# Altium footprint library My_Library.PcbLib: 118 footprints (part 7 of 8)
Each footprint in its own frame and in the unit in brackets; x right, y up, seen from the top. Pads: shape width x height; smd on the part's side, far side on the other; paste and mask are expansions set on the pad; w line width, h text height; cw(c..) or ccw(c..) is an arc to the next point about the centre after c.
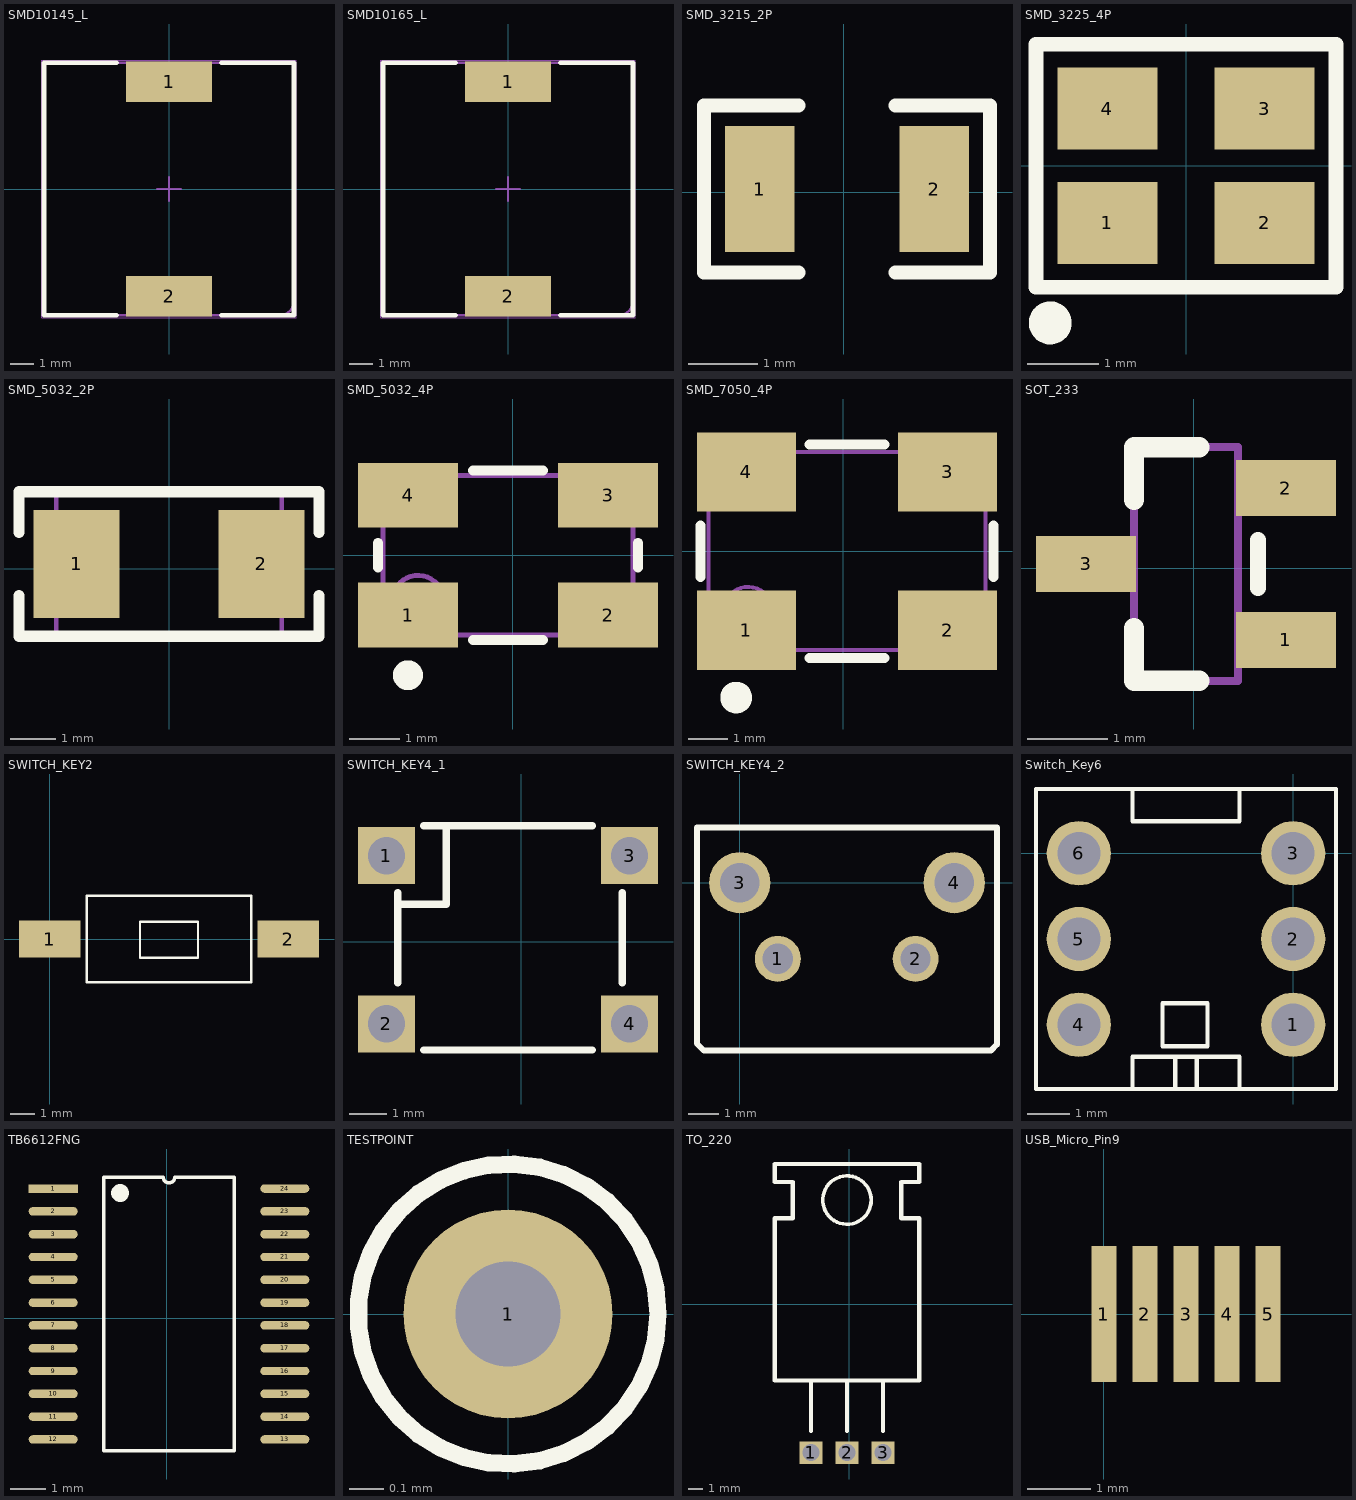
[diagram p6: the footprints below, top view; thin cyan lines are the x and y axes]

## SMD10145_L [mm]
pads (2):
  rect 3.6x1.7 smd: 1(0,4.5) 2(0,-4.5)
Top Overlay:
  lines w0.2: -2.2,-5.3 -5.25,-5.3 -5.25,5.3 -2.2,5.3 ; 2.2,-5.3 5.25,-5.3 5.25,5.3 2.2,5.3
Mechanical 13:
  lines w0.1: -5.25,-5.3 4.649,-5.3 ccw(c4.649,-4.699) 5.25,-4.699 5.25,5.3 -5.25,5.3 -5.25,-5.3
Mechanical 15:
  lines w0.05: -5.35,-5.4 -5.35,5.4 5.35,5.4 5.35,-5.4 -5.35,-5.4
  lines w0.1: -0.5,0 0.5,0 ; 0,-0.5 0,0.5
3D body "kim step.step": height 5.2, standoff 0, extent -5.25,-5.311 5.262,5.3

## SMD10165_L [mm]
pads (2):
  rect 3.6x1.7 smd: 1(0,4.5) 2(0,-4.5)
Top Overlay:
  lines w0.2: -2.2,-5.3 -5.25,-5.3 -5.25,5.3 -2.2,5.3 ; 2.2,-5.3 5.25,-5.3 5.25,5.3 2.2,5.3
Mechanical 13:
  lines w0.1: -5.25,-5.3 -5.25,5.266 -5.216,5.3 5.25,5.3 5.25,-4.699 cw(c4.649,-4.699) 4.649,-5.3 -5.25,-5.3
Mechanical 15:
  lines w0.05: -5.35,-5.4 5.35,-5.4 5.35,5.4 -5.35,5.4 -5.35,-5.4
  lines w0.1: -0.5,0 0.5,0 ; 0,-0.5 0,0.5
3D body "kim step.step": height 5.2, standoff 0, extent -5.25,-5.311 5.262,5.3

## SMD_3215_2P [mm]
pads (2):
  rect 1x1.8 smd: 1(-1.2,0.05) 2(1.3,0.05)
Top Overlay:
  lines w0.2: -0.645,-1.15 -2,-1.15 -2,1.25 -0.645,1.25 ; 0.745,-1.15 2.1,-1.15 2.1,1.25 0.745,1.25

## SMD_3225_4P [mm]
pads (4):
  rect 1.4x1.15 smd: 1(-1.1,-0.8) 2(1.1,-0.8) 3(1.1,0.8) 4(-1.1,0.8)
Top Overlay:
  circle w0.3: c-1.9,-2.2 r0.15
  lines w0.203: -2.1,-1.7 2.1,-1.7 2.1,1.7 -2.1,1.7 -2.1,-1.7
3D body "User Library-3225-1.STEP": height 0.61, standoff 0, extent -1.6,-1.25 1.6,1.25

## SMD_5032_2P [mm]
pads (2):
  rect 1.9x2.4 smd: 1(-2.05,0.1) 2(2.05,0.1)
Top Overlay:
  lines w0.254: -3.325,-0.6 -3.325,-1.5 3.325,-1.5 3.325,-0.6 ; -3.325,0.8 -3.325,1.7 3.325,1.7 3.325,0.8
Mechanical 13:
  lines w0.1: -2.5,-1.5 -2.5,1.7 2.5,1.7 2.5,-1.5 -2.5,-1.5

## SMD_5032_4P [mm]
pads (4):
  rect 2x1.3 smd: 1(-2.1,-1.2) 2(1.9,-1.2) 3(1.9,1.2) 4(-2.1,1.2)
Top Overlay:
  circle w0.3: c-2.1,-2.4 r0.15
  lines w0.2: -2.7,-0.25 -2.7,0.25 ; -0.8,-1.7 0.6,-1.7 ; -0.8,1.7 0.6,1.7 ; 2.5,-0.25 2.5,0.25
Mechanical 13:
  circle w0.1: c-1.9,-0.9 r0.5
  lines w0.1: -2.6,-1.6 -2.6,1.6 2.4,1.6 2.4,-1.6 -2.6,-1.6

## SMD_7050_4P [mm]
pads (4):
  rect 2.5x2 smd: 1(-2.44,-2) 2(2.64,-2) 3(2.64,2) 4(-2.44,2)
Top Overlay:
  circle w0.4: c-2.7,-3.7 r0.2
  lines w0.254: -3.6,-0.65 -3.6,0.65 ; -0.85,-2.7 1.05,-2.7 ; -0.85,2.7 1.05,2.7 ; 3.8,-0.65 3.8,0.65
Mechanical 13:
  circle w0.1: c-2.4,-1.5 r0.6
  lines w0.1: -3.4,-2.5 -3.4,2.5 3.6,2.5 3.6,-2.5 -3.4,-2.5

## SOT_233 [mm]
pads (3):
  rect 1.25x0.7 smd: 1(1.15,-0.9) 2(1.15,1) 3(-1.35,0.05)
Top Overlay:
  lines w0.2: 0.8,-0.25 0.8,0.35
  lines w0.254: -0.75,-0.75 -0.75,-1.41 0.065,-1.41 ; 0.065,1.51 -0.75,1.51 ; -0.75,0.85 -0.75,1.51 ; -0.75,0.85 -0.75,1.51 ; -0.75,0.85 -0.75,1.51
Mechanical 13:
  lines w0.1: -0.75,-1.41 -0.75,1.51 ; -0.75,-1.41 0.55,-1.41 ; -0.75,-1.41 -0.75,1.51 ; -0.75,-1.41 0.55,-1.41 ; -0.75,-1.41 0.55,-1.41 ; -0.75,-1.41 -0.75,1.51 ; -0.75,1.51 0.55,1.51 ; -0.75,1.51 0.55,1.51 ; -0.75,1.51 0.55,1.51 ; 0.55,-1.41 0.55,1.51 ; 0.55,-1.41 0.55,1.51 ; 0.55,-1.41 0.55,1.51
3D body "SOT-23.step": height 1.3, standoff 0, extent -1.6,-1.45 1.4,1.55

## SWITCH_KEY2 [mm]
pads (2):
  rect 2.5x1.5 smd: 1(0,0) 2(9.65,0)
Top Overlay:
  lines w0.1: 1.5,-1.75 8.15,-1.75 8.15,1.75 1.5,1.75 1.5,-1.75 ; 3.65,-0.75 6,-0.75 6,0.7 3.65,0.7 3.65,-0.75
3D body: height 3, standoff 0, extent 1.5,-1.75 8.15,1.75

## SWITCH_KEY4_1 [mm]
pads (4):
  rect 1.524x1.524 hole 1: 1(-3.6,2.3) 2(-3.6,-2.2) 3(2.9,2.3) 4(2.9,-2.2)
Top Overlay:
  lines w0.2: -3.3,-1.1 -3.3,1.3 ; -3.3,1 -2,1 -2,3.1 ; -2.6,-2.9 1.9,-2.9 ; -2.6,3.1 1.9,3.1 ; 2.7,-1.1 2.7,1.3

## SWITCH_KEY4_2 [mm]
pads (4):
  round 1.5 hole 0.99: 1(1.245,-2.49) 2(5.745,-2.49)
  round 2 hole 1.3: 3(0,0) 4(7.01,0)
Top Overlay:
  lines w0.2: -1.397,-5.258 -1.397,-3.835 -1.397,1.803 5.74,1.803 8.407,1.803 8.407,-4.013 8.407,-5.283 8.204,-5.486 -1.168,-5.486 -1.397,-5.258
3D body: height 7.01, standoff 0, extent -1.372,-5.537 8.407,1.854

## Switch_Key6 [mm]
pads (6):
  round 1.5 hole 1: 1(0,-4) 2(0,-2) 3(0,0) 4(-5,-4) 5(-5,-2) 6(-5,0)
Top Overlay:
  lines w0.1: -3.75,-5.5 -3.75,-4.75 -1.25,-4.75 -1.25,-5.5 ; -3.75,1.5 -3.75,0.75 -1.25,0.75 -1.25,1.5 ; -2.75,-5.5 -2.75,-4.75 ; -2.25,-5.5 -2.25,-4.75 ; -6,-5.5 1,-5.5 1,1.5 -6,1.5 -6,-5.5 ; -3.05,-4.5 -3.05,-4.25 -3.05,-3.75 -3.05,-3.5 -2,-3.5 -2,-4.5 -3.05,-4.5
3D body: height 12, standoff 0, extent -6,-5.5 1,1.5

## TB6612FNG [mm]
pads (24):
  rect 1.4x0.24 smd: 1(-3.234,3.702)
  oval 1.4x0.24 smd: 2(-3.234,3.052) 3(-3.234,2.402) 4(-3.234,1.752) 5(-3.234,1.102) 6(-3.234,0.452) 7(-3.234,-0.198) 8(-3.234,-0.848) 9(-3.234,-1.498) 10(-3.234,-2.148) 11(-3.234,-2.798) 12(-3.234,-3.448) 13(3.366,-3.448) 14(3.366,-2.798) 15(3.366,-2.148) 16(3.366,-1.498) 17(3.366,-0.848) 18(3.366,-0.198) 19(3.366,0.452) 20(3.366,1.102) 21(3.366,1.752) 22(3.366,2.402) 23(3.366,3.052) 24(3.366,3.702)
Top Overlay:
  circle w0.254: c-1.329,3.575 r0.127
  lines w0.1: -1.799,-3.773 -1.799,4.027 -0.096,4.027 ccw(c0.066,4.027) 0.228,4.027 1.931,4.027 1.931,-3.773 -1.799,-3.773
3D body: height 0.04, standoff 0, extent -1.837,-3.791 1.973,4.083

## TESTPOINT [mm]
pads (1):
  round 0.6 hole 0.3: 1(0,0)
Top Overlay:
  circle w0.05: c0,0 r0.43

## TO_220 [mm]
pads (3):
  rect 1.6x1.6 hole 1.2: 1(-2.7,-10.45) 2(-0.16,-10.45) 3(2.38,-10.45)
Top Overlay:
  circle w0.254: c-0.16,7.33 r1.704
  lines w0.305: -2.7,-8.926 -2.7,-5.37 ; -0.16,-8.926 -0.16,-5.37 ; 2.38,-8.926 2.38,-5.37 ; -5.24,-5.37 -5.24,6.06 -3.97,6.06 -3.97,8.6 -5.24,8.6 -5.24,9.87 4.92,9.87 4.92,8.6 3.65,8.6 3.65,6.06 4.92,6.06 4.92,-5.37 -5.24,-5.37

## USB_Micro_Pin9 [mm]
pads (5):
  rect 0.4x2.15 smd: 1(0,0) 2(0.65,0) 3(1.3,0) 4(1.95,0) 5(2.6,0)